# Altium footprint library WiFi_ADC1.PcbLib: 37 footprints (part 2 of 3)
Each footprint in its own frame and in the unit in brackets; x right, y up, seen from the top. Pads: shape width x height; smd on the part's side, far side on the other; paste and mask are expansions set on the pad; w line width, h text height; cw(c..) or ccw(c..) is an arc to the next point about the centre after c.
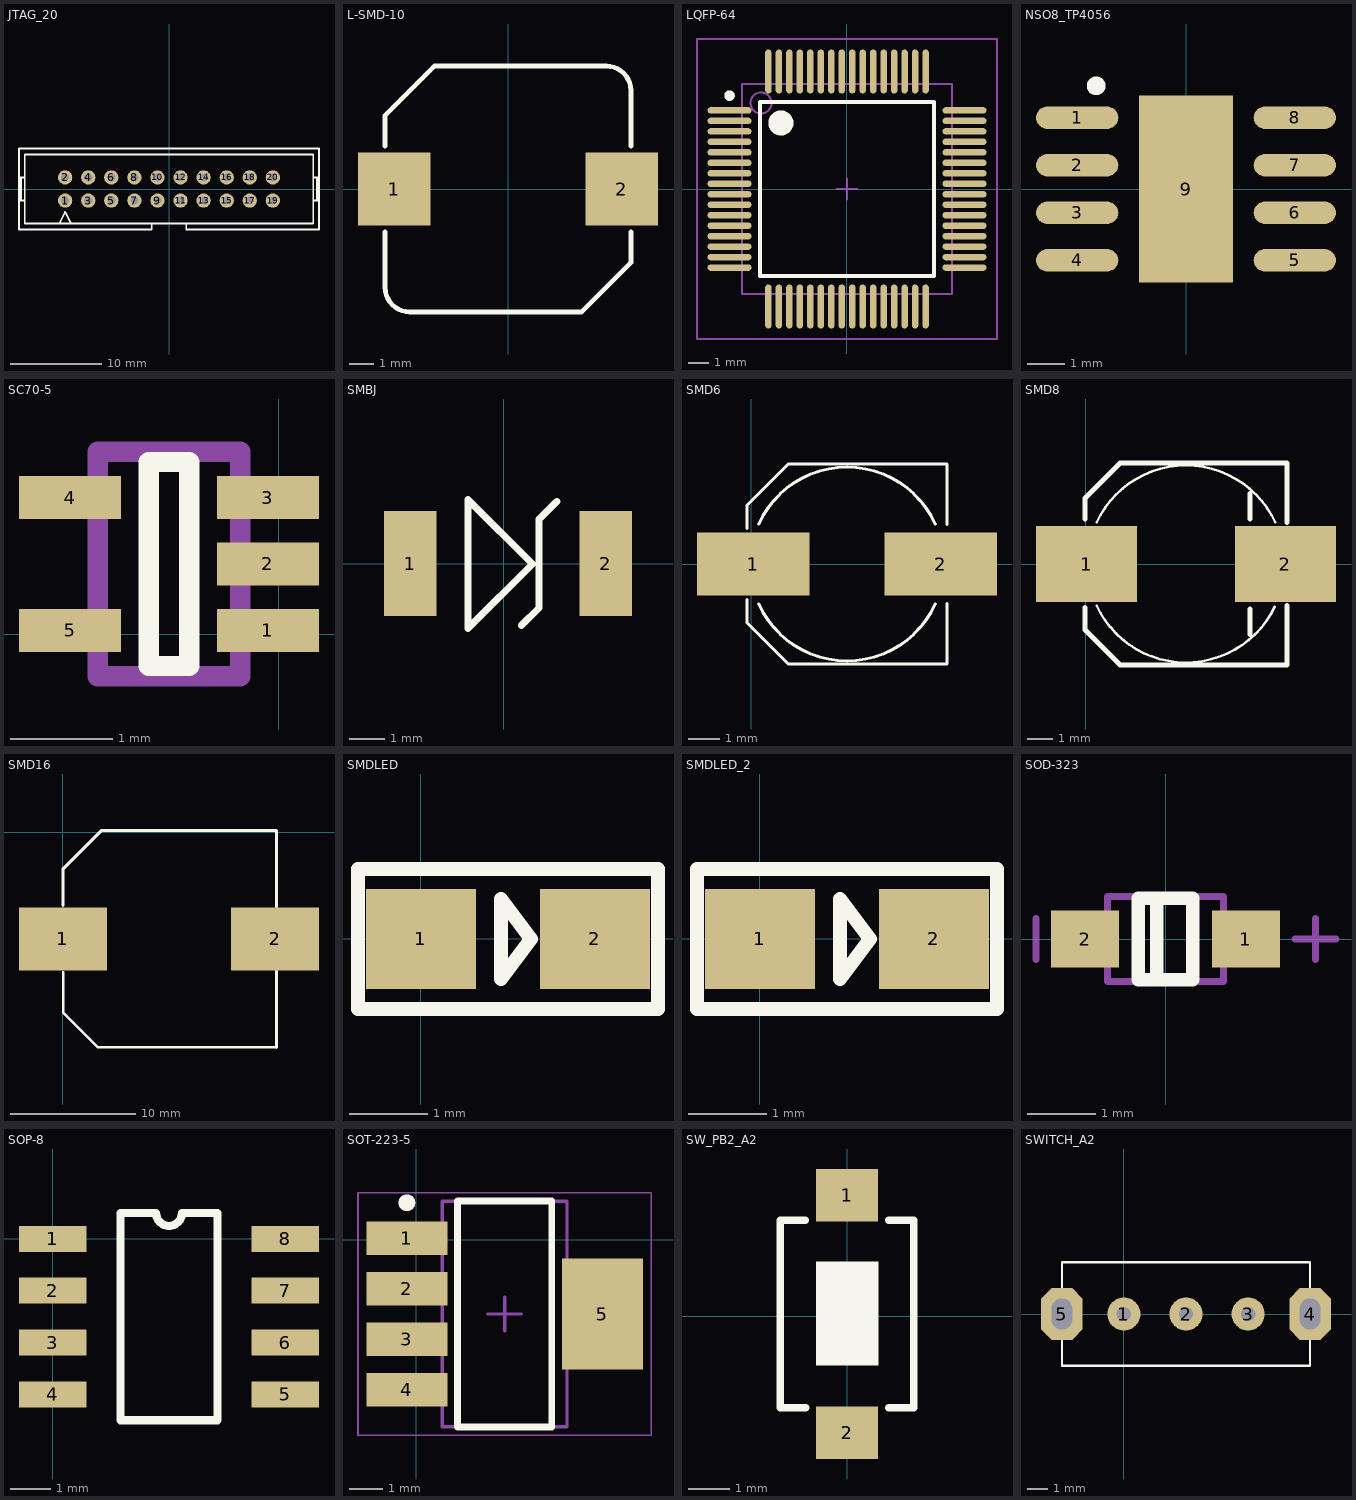
[diagram p1: the footprints below, top view; thin cyan lines are the x and y axes]

## JTAG_20 [mil]
pads (20):
  round 62 hole 35: 1(-450,-50) 2(-450,50) 3(-350,-50) 4(-350,50) 5(-250,-50) 6(-250,50) 7(-150,-50) 8(-150,50) 9(-50,-50) 10(-50,50) 11(50,-50) 12(50,50) 13(150,-50) 14(150,50) 15(250,-50) 16(250,50) 17(350,-50) 18(350,50) 19(450,-50) 20(450,50)
Top Overlay:
  lines w8: -650,-50 -625,-50 ; -650,50 -625,50 ; -641.67,-50 -641.67,50 ; -475,-150 -450,-100 -425,-150 ; -339.57,-175 -75,-175 -75,-150 ; -325,-175 -650,-175 -650,175 650,175 650,-175 325,-175 75,-175 75,-150 ; 625,-50 650,-50 ; 625,50 650,50 ; 641.67,-50 641.67,50 ; -75,-150 -625,-150 -625,150 625,150 625,-150 75,-150 ; -75,-150 75,-150

## L-SMD-10 [mm] "贴片电感10*10"
pads (2):
  rect 3x3 smd: 1(-4.699,0) 2(4.699,0)
Top Overlay:
  lines w0.2: -5.08,-1.778 -5.08,-4.064 ccw(c-4.064,-4.064) -4.064,-5.08 3.048,-5.08 5.08,-3.048 5.08,-1.778 ; -5.08,1.778 -5.08,3.048 -3.048,5.08 4.064,5.08 cw(c4.064,4.064) 5.08,4.064 5.08,1.778
3D body: height 4, standoff 0, extent -5.08,-5.08 5.08,5.08

## LQFP-64 [mm] "LQFP64"
height 1.5
pads (64):
  oval 2.1x0.3 smd: 1(-5.6,3.75) 2(-5.6,3.25) 3(-5.6,2.75) 4(-5.6,2.25) 5(-5.6,1.75) 6(-5.6,1.25) 7(-5.6,0.75) 8(-5.6,0.25) 9(-5.6,-0.25) 10(-5.6,-0.75) 11(-5.6,-1.25) 12(-5.6,-1.75) 13(-5.6,-2.25) 14(-5.6,-2.75) 15(-5.6,-3.25) 16(-5.6,-3.75) 33(5.6,-3.75) 34(5.6,-3.25) 35(5.6,-2.75) 36(5.6,-2.25) 37(5.6,-1.75) 38(5.6,-1.25) 39(5.6,-0.75) 40(5.6,-0.25) 41(5.6,0.25) 42(5.6,0.75) 43(5.6,1.25) 44(5.6,1.75) 45(5.6,2.25) 46(5.6,2.75) 47(5.6,3.25) 48(5.6,3.75)
  oval 0.3x2.1 smd: 17(-3.75,-5.6) 18(-3.25,-5.6) 19(-2.75,-5.6) 20(-2.25,-5.6) 21(-1.75,-5.6) 22(-1.25,-5.6) 23(-0.75,-5.6) 24(-0.25,-5.6) 25(0.25,-5.6) 26(0.75,-5.6) 27(1.25,-5.6) 28(1.75,-5.6) 29(2.25,-5.6) 30(2.75,-5.6) 31(3.25,-5.6) 32(3.75,-5.6) 49(3.75,5.6) 50(3.25,5.6) 51(2.75,5.6) 52(2.25,5.6) 53(1.75,5.6) 54(1.25,5.6) 55(0.75,5.6) 56(0.25,5.6) 57(-0.25,5.6) 58(-0.75,5.6) 59(-1.25,5.6) 60(-1.75,5.6) 61(-2.25,5.6) 62(-2.75,5.6) 63(-3.25,5.6) 64(-3.75,5.6)
Top Overlay:
  circle w0.25: c-5.6,4.45 r0.125
  circle w0.6: c-3.15,3.15 r0.3
  lines w0.2: -4.15,-4.15 -4.15,4.15 4.15,4.15 4.15,-4.15 -4.15,-4.15
Mechanical 13:
  circle w0.1: c-4.1,4.1 r0.5
  lines w0.1: -5,-5 -5,5 5,5 5,-5 -5,-5
Mechanical 15:
  lines w0.1: -0.5,0 0.5,0 ; 0,-0.5 0,0.5 ; -7.15,-7.15 -7.15,7.15 7.15,7.15 7.15,-7.15 -7.15,-7.15
3D body: height 1.6, standoff 0, extent -5,-5 5,5

## NSO8_TP4056 [mm] "SOIC-max660"
height 1.75
pads (9):
  oval 2.2x0.6 smd: 1(-2.908,1.905) 2(-2.908,0.635) 3(-2.908,-0.635) 4(-2.908,-1.905) 5(2.908,-1.905) 6(2.908,-0.635) 7(2.908,0.635) 8(2.908,1.905)
  rect 2.5x5 smd: 9(0,0)
Top Overlay:
  circle w0.25: c-2.4,2.755 r0.125

## SC70-5 [mm]
pads (5):
  rect 1x0.42 smd mask+0.051: 1(-0.108,0.04) 2(-0.108,0.69) 3(-0.108,1.34) 4(-2.048,1.34) 5(-2.048,0.04)
Top Overlay:
  lines w0.2: -1.278,-0.31 -1.278,1.69 -0.878,1.69 -0.878,-0.31 -1.278,-0.31
Mechanical 13:
  lines w0.2: -1.778,-0.41 -0.378,-0.41 -0.378,1.79 -1.778,1.79 -1.778,-0.41
3D body "User Library-SOT353-1.STEP": height 1.1, standoff 0, extent -2.278,-0.41 0.122,1.79

## SMBJ [mm]
pads (2):
  rect 1.5x3 smd: 1(-2.667,0) 2(2.921,0)
Top Overlay:
  lines w0.203: 0.508,-1.778 1.016,-1.27 1.016,1.27 1.524,1.778 ; -1.016,-1.854 0.826,-0.013 -1.016,1.829 -1.016,-1.854

## SMD6 [mm]
pads (2):
  rect 3.6x2 smd: 1(0.071,0.009) 2(6.071,0.009)
Top Overlay:
  lines w0.1: -0.129,-1.134 -0.129,-1.871 1.191,-3.191 6.271,-3.191 6.271,-1.261 ; -0.129,1.152 -0.129,1.889 1.191,3.209 6.271,3.209 6.271,1.279 ; 0.249,-1.274 ccw(c3.071,0.009) 5.893,-1.274 ; 0.249,1.292 cw(c3.071,0.009) 5.893,1.292

## SMD8 [mm]
pads (2):
  rect 4x3 smd: 1(0.028,0.007) 2(7.902,0.007)
Top Overlay:
  lines w0.1: 0.426,-1.636 ccw(c3.965,0.007) 7.481,-1.686 ; 0.426,1.65 cw(c3.965,0.007) 7.504,1.65
  lines w0.2: -0.035,-1.707 -0.035,-2.597 1.361,-3.993 7.965,-3.993 7.965,-1.644 ; -0.035,1.785 -0.035,2.611 1.361,4.007 7.965,4.007 7.965,1.658 ; 6.505,-2.787 6.505,-1.771 ; 6.505,1.785 6.505,2.801
3D body: height 10.9, standoff 0.9, extent 0.116,-3.865 7.845,3.879
3D body: height 0.6, standoff 0, extent 0.028,-3.93 7.902,3.944

## SMD16 [mm]
pads (2):
  rect 7x5 smd: 1(0,-8.5) 2(16.891,-8.5)
Top Overlay:
  lines w0.2: 0.011,-11.176 0.011,-14.362 2.794,-17.145 17.018,-17.145
  lines w0.254: 0.011,-5.842 0.011,-2.91 3.048,0.127 17.018,0.127 17.018,-5.969 ; 17.018,-17.145 17.018,-11.049
3D body: height 10.9, standoff 0.9, extent 5.715,-11.086 11.303,-5.969
3D body: height 0.6, standoff 0, extent 0,-17.145 17.018,0.254

## SMDLED [mm] "贴片LED"
pads (2):
  rect 1.4x1.27 smd: 1(0.001,-0.002) 2(2.211,-0.002)
Top Overlay:
  lines w0.178: 3.012,0.887 3.011,0.887 ; 3.011,0.887 3.011,-0.891 -0.799,-0.891 -0.799,-0.002 -0.799,0.887 3.011,0.887 ; 1.017,-0.51 1.017,0.506 1.398,-0.002 1.017,-0.51

## SMDLED_2 [mm]
pads (2):
  rect 1.4x1.27 smd: 1(0.001,-0.002) 2(2.211,-0.002)
Top Overlay:
  lines w0.178: 3.012,0.887 3.011,0.887 ; 3.011,0.887 -0.799,0.887 -0.799,-0.002 -0.799,-0.891 3.011,-0.891 3.011,0.887 ; 1.017,-0.51 1.398,-0.002 1.017,0.506 1.017,-0.51

## SOD-323 [mm]
pads (2):
  rect 1x0.83 smd: 1(1.18,0) 2(-1.18,0)
Top Overlay:
  lines w0.2: -0.13,-0.6 -0.13,0.6 ; -0.4,-0.6 0.4,-0.6 0.4,0.6 -0.4,0.6 -0.4,-0.6
Mechanical 13:
  lines w0.1: -0.85,-0.625 0.85,-0.625 0.85,0.625 -0.85,0.625 -0.85,-0.625
Mechanical 15:
  lines w0.1: -1.9,-0.3 -1.9,0.3 ; 1.9,0 2.5,0 ; 2.2,-0.3 2.2,0.3
3D body "SOD323.STEP": height 1.1, standoff 0, extent -1.35,-0.625 1.35,0.625

## SOP-8 [mil]
pads (8):
  rect 65x25 smd: 1(0,0) 2(0,-50) 3(0,-100) 4(0,-150) 5(224.41,-150) 6(224.41,-100) 7(224.41,-50) 8(224.41,0)
Top Overlay:
  lines w7.87: 65.37,-175 159.04,-175 159.04,25 124.7,25 cw(c112.2,25) 99.7,25 65.37,25 65.37,-175

## SOT-223-5 [mm]
pads (5):
  rect 2.4x1 smd: 1(-0.285,0.047) 2(-0.285,-1.453) 3(-0.285,-2.953) 4(-0.285,-4.453)
  rect 2.4x3.3 smd: 5(5.515,-2.203)
Top Overlay:
  circle w0.25: c-0.285,1.097 r0.125
  lines w0.2: 1.215,-5.553 4.015,-5.553 4.015,1.147 1.215,1.147 1.215,-5.553
Mechanical 13:
  lines w0.1: 0.765,-5.553 4.465,-5.553 4.465,1.147 0.765,1.147 0.765,-5.553
Mechanical 15:
  lines w0.05: -1.735,-5.803 6.965,-5.803 6.965,1.397 -1.735,1.397 -1.735,-5.803
  lines w0.1: 2.115,-2.203 3.115,-2.203 ; 2.615,-2.703 2.615,-1.703
3D body: height 1.8, standoff 0.02, extent 0.765,-5.553 4.465,1.147

## SW_PB2_A2 [mm] "3*4mm"
pads (2):
  rect 1.5x1.25 smd: 1(0,2.9) 2(0,-2.8)
Top Overlay:
  region: -0.747,1.309 -0.747,-1.191 0.753,-1.191 0.753,1.309
  lines w0.178: -1,2.3 -1.6,2.3 -1.6,-2.198 -0.995,-2.202 ; 1,-2.2 1.6,-2.2 1.6,2.3 1,2.3
3D body: height 1.2, standoff 0.8, extent -0.762,-1.143 0.762,1.27

## SWITCH_A2 [mm] "平拨开关"
height 9
pads (5):
  round 1.6 hole 0.7: 1(0,0) 2(3,0) 3(6,0)
  oct 2x2.5 hole 1 slot 1.5 at 90 deg: 4(9,0) 5(-3,0)
Top Overlay:
  lines w0.1: -3,-2.5 -3,2.5 9,2.5 9,-2.5 -3,-2.5